# Altium footprint library GD25LQ128DWIGR.PcbLib: 1 footprints
Each footprint in its own frame and in the unit in brackets; x right, y up, seen from the top. Pads: shape width x height; smd on the part's side, far side on the other; paste and mask are expansions set on the pad; w line width, h text height; cw(c..) or ccw(c..) is an arc to the next point about the centre after c.
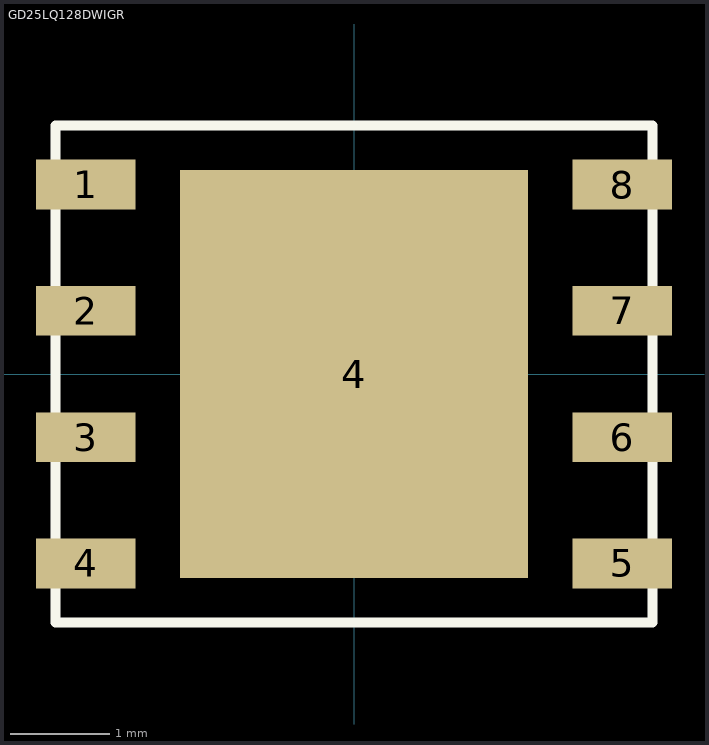
[diagram p0: the footprint, top view; thin cyan lines are the x and y axes]

## GD25LQ128DWIGR [mm]
height 0.8
pads (9):
  rect 1x0.5 smd: 1(-2.7,1.905) 2(-2.7,0.635) 3(-2.7,-0.635) 4(-2.7,-1.905) 5(2.7,-1.905) 6(2.7,-0.635) 7(2.7,0.635) 8(2.7,1.905)
  rect 3.5x4.1 smd: 4(0,0)
Top Overlay:
  lines w0.1: -3,-2.5 -3,2.5 3,2.5 3,-2.5 -3,-2.5
3D body "GD25LQ128DWIGR.STEP": height 0.81, standoff 0, extent -3.01,-2.5 3.01,2.5